# Altium schematic symbol library Conectores GAM.SchLib: 178 symbols
Pins are listed as number, name and electrical type; pins without a type are passive.

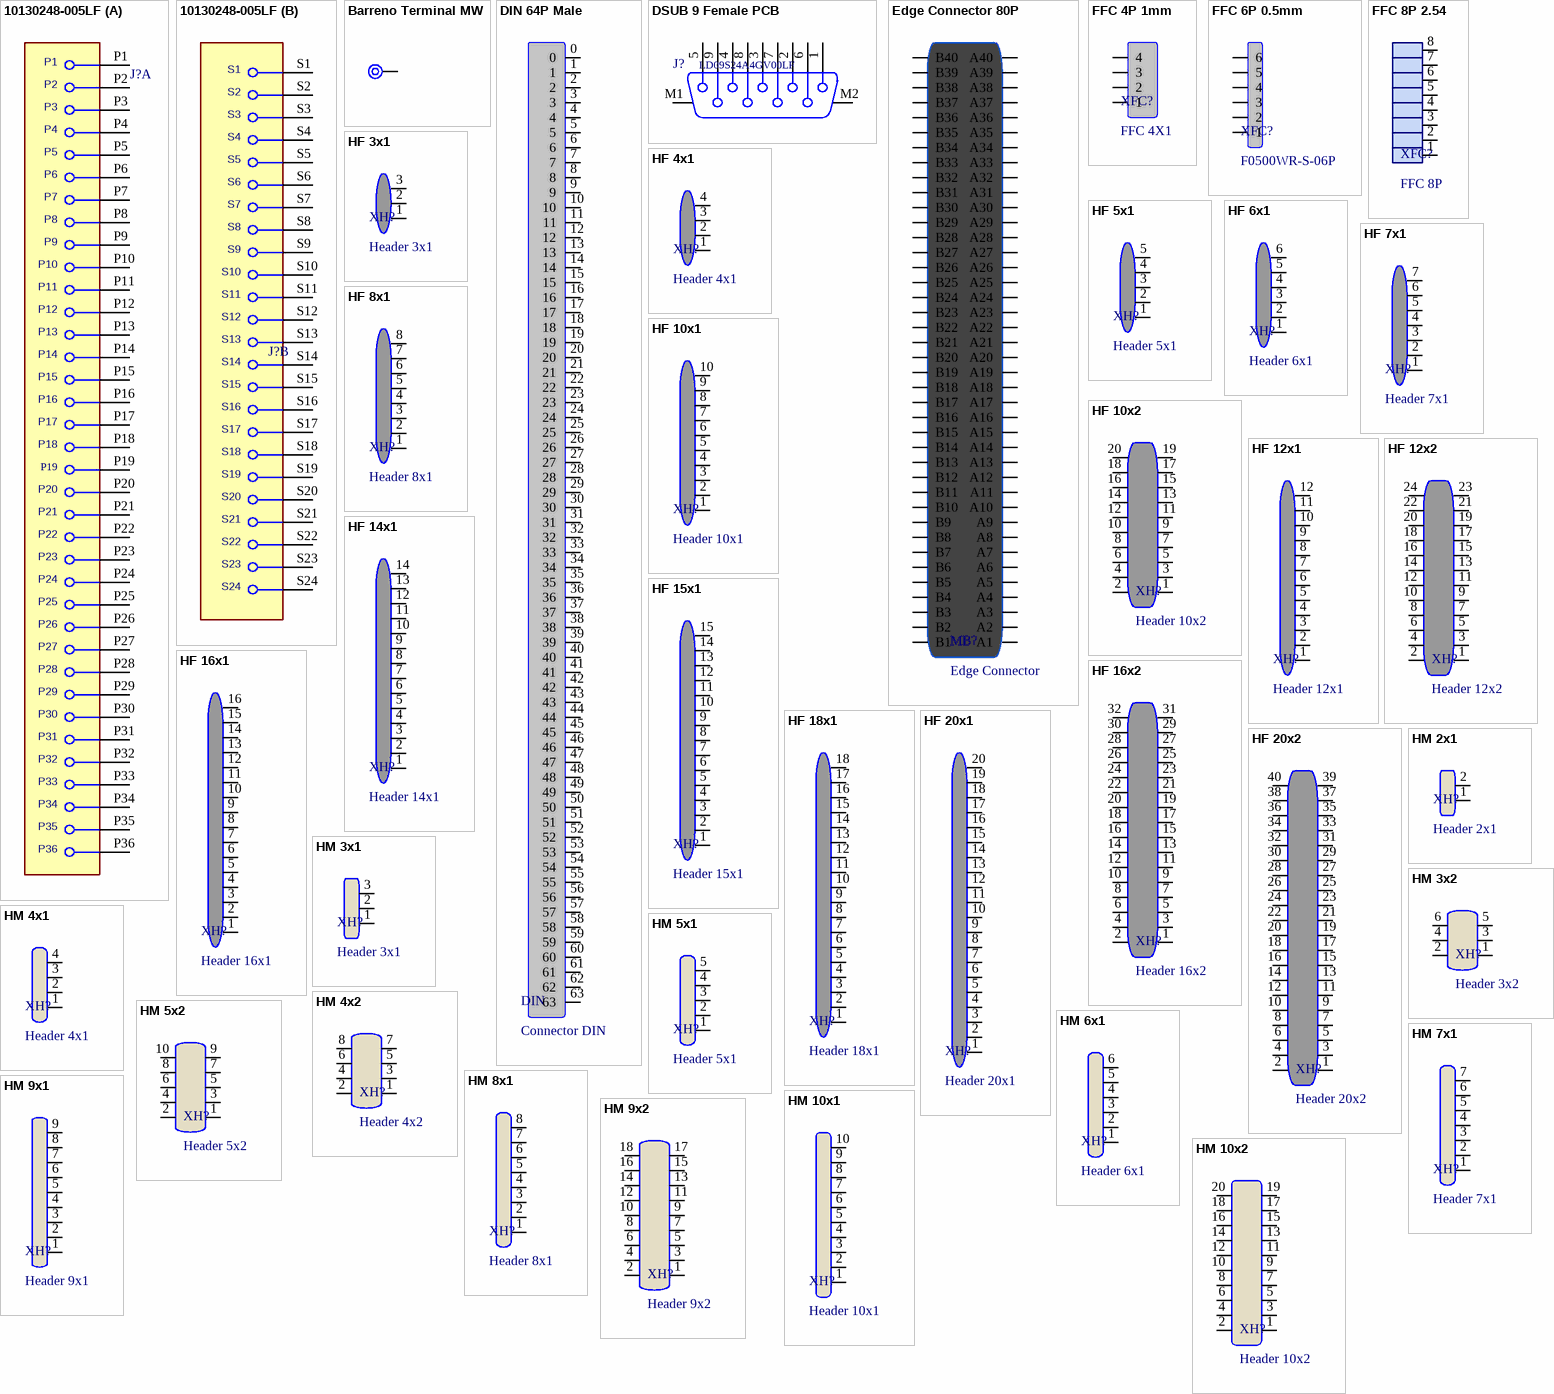
[diagram p0: symbols 10130248-005LF to HM 10x2]

## 10130248-005LF
designator J?  (value not drawn)
footprint Amphenol_0_MFG
part A pins: P1, P2, P3, P4, P5, P6, P7, P8, P9, P10, P11, P12, P13, P14, P15, P16, P17, P18, P19, P20, P21, P22, P23, P24, P25, P26, P27, P28, P29, P30, P31, P32, P33, P34, P35, P36
part B pins: S1, S2, S3, S4, S5, S6, S7, S8, S9, S10, S11, S12, S13, S14, S15, S16, S17, S18, S19, S20, S21, S22, S23, S24

## Barreno Terminal MW
designator H?, comment Hole M3
Barreno de Sujeción M3 Stand Off
footprint M3 Power Terminal (Terminal M3 Para Cable Stand)
pins: 1

## DIN 64P Male
designator DIN, comment Connector DIN
Conector DIn 64P Male
footprint 64P (Connector 64P PMQ)
pins: 0, 1, 2, 3, 4, 5, 6, 7, 8, 9, 10, 11, 12, 13, 14, 15, 16, 17, 18, 19, 20, 21, 22, 23, 24, 25, 26, 27, 28, 29, 30, 31, 32, 33, 34, 35, 36, 37, 38, 39, 40, 41, 42, 43, 44, 45, 46, 47, 48, 49, 50, 51, 52, 53, 54, 55, 56, 57, 58, 59, 60, 61, 62, 63

## DSUB 9 Female PCB
designator J?, comment LD09S24A4GV00LF
LD09S24A4GV00LF Female PCB Connector with Hex Screw, Straight, 9p; Manufacturer Part Number: 61800929321; Manufacturer: Wurth Elektronik; Pin Number: 9; Rated Current: 3A; Contact Resistance: 30mOhm; Working Voltage: 125VAC; Withstanding Voltage: 1000VAC; ComponentLink1Description: Manufacturer; ComponentLink1URL: http://www.we-online.de; ComponentLink2Description: Datasheet; ComponentLink2URL: https://www.we-online.com/catalog/datasheet/61800929321.pdf; Published Date: April 2021; Type: Straight; Operating Temperature: -40 to +85degC; Mounting Technology: THT; Gender: Female; Packaging: Tray
footprint LD09S24A4GV00LF (Female 09p Straight With board clip & Hex screw UNC 4-40)
pins: 1, 2, 3, 4, 5, 6, 7, 8, 9, M1, M2

## Edge Connector 80P
designator MB?, comment Edge Connector
Edge Connector 80P MicroBit Compatible
footprint Edge Connector (80P 1.27mm Edge Connector MicroBit)
pins: A1, A2, A3, A4, A5, A6, A7, A8, A9, A10, A11, A12, A13, A14, A15, A16, A17, A18, A19, A20, A21, A22, A23, A24, A25, A26, A27, A28, A29, A30, A31, A32, A33, A34, A35, A36, A37, A38, A39, A40, B1, B2, B3, B4, B5, B6, B7, B8, B9, B10, B11, B12, B13, B14, B15, B16, B17, B18, B19, B20, B21, B22, B23, B24, B25, B26, B27, B28, B29, B30, B31, B32, B33, B34, B35, B36, B37, B38, B39, B40

## FFC 4P 1mm
designator XFC?, comment FFC 4X1
FFC Conector 4x1 1mm
footprint FFC 4P (Conector FFC 4P 1mm)
pins: 1, 2, 3, 4

## FFC 6P 0.5mm
designator XFC?, comment F0500WR-S-06P
FFC Conector 6x1 0.5mm
footprint FFC 6P (Conector FFC 6P 0.5mm)
pins: 1, 2, 3, 4, 5, 6

## FFC 8P 2.54
designator XFC?, comment FFC 8P
Connector FFC 2.54mm 8P Angulo
footprint FFC  8-2.54 (Conector FFC Angulo 2.54mm 8P)
pins: 1, 2, 3, 4, 5, 6, 7, 8

## HF 3x1
designator XH?, comment Header 3x1
Header Hembra 3x1 2.54mm
footprint HH 3X1 (Header Hembra 3x1 2.54mm)
pins: 1, 2, 3

## HF 4x1
designator XH?, comment Header 4x1
Header Hembra 4x1 2.54mm
footprint HH 4X1 (Header Hembra 4x1 2.54mm)
pins: 1, 2, 3, 4

## HF 5x1
designator XH?, comment Header 5x1
Header Hembra 5x1 2.54mm
footprint HH 5X1 (Header Hembra 5x1 2.54mm)
pins: 1, 2, 3, 4, 5

## HF 6x1
designator XH?, comment Header 6x1
Header Hembra 6x1 2.54mm
footprint HH 6X1 (Header Hembra 6x1 2.54mm)
pins: 1, 2, 3, 4, 5, 6

## HF 7x1
designator XH?, comment Header 7x1
Header Hembra 7x1 2.54mm
footprint HH 7X1 (Header Hembra 7x1 2.54mm)
pins: 1, 2, 3, 4, 5, 6, 7

## HF 8x1
designator XH?, comment Header 8x1
Header Hembra 8x1 2.54mm
footprint HH 8X1 (Header Hembra 8x1 2.54mm)
pins: 1, 2, 3, 4, 5, 6, 7, 8

## HF 10x1
designator XH?, comment Header 10x1
Header Hembra 10x1 2.54mm
footprint HH 10X1 (Header Hembra 10x1 2.54mm)
pins: 1, 2, 3, 4, 5, 6, 7, 8, 9, 10

## HF 10x2
designator XH?, comment Header 10x2
Header Hembra 10x2 2.54mm
footprint HH 10X2 (Header Hembra 10x2 2.54mm)
pins: 1, 2, 3, 4, 5, 6, 7, 8, 9, 10, 11, 12, 13, 14, 15, 16, 17, 18, 19, 20

## HF 12x1
designator XH?, comment Header 12x1
Header Hembra 12x1 2.54mm
footprint HH 12X1 (Header Hembra 12x1 2.54mm)
pins: 1, 2, 3, 4, 5, 6, 7, 8, 9, 10, 11, 12

## HF 12x2
designator XH?, comment Header 12x2
Header Hembra 12x2 2.54mm
footprint HH 12X2 (Header Hembra 12x2 2.54mm)
pins: 1, 2, 3, 4, 5, 6, 7, 8, 9, 10, 11, 12, 13, 14, 15, 16, 17, 18, 19, 20, 21, 22, 23, 24

## HF 14x1
designator XH?, comment Header 14x1
Header Hembra 14x1 2.54mm
footprint HH 14X1 (Header Hembra 14x1 2.54mm)
pins: 1, 2, 3, 4, 5, 6, 7, 8, 9, 10, 11, 12, 13, 14

## HF 15x1
designator XH?, comment Header 15x1
Header Hembra 15x1 2.54mm
footprint HH 15X1 (Header Hembra 15x1 2.54mm)
pins: 1, 2, 3, 4, 5, 6, 7, 8, 9, 10, 11, 12, 13, 14, 15

## HF 16x1
designator XH?, comment Header 16x1
Header Hembra 16x1 2.54mm
footprint HH 16X1 (Header Hembra 16x1 2.54mm)
pins: 1, 2, 3, 4, 5, 6, 7, 8, 9, 10, 11, 12, 13, 14, 15, 16

## HF 16x2
designator XH?, comment Header 16x2
Header Hembra 16x2 2.54mm
footprint HH 16X2 (Header Hembra 16x2 2.54mm)
pins: 1, 2, 3, 4, 5, 6, 7, 8, 9, 10, 11, 12, 13, 14, 15, 16, 17, 18, 19, 20, 21, 22, 23, 24 17, 25 16, 26 15, 27 14, 28 13, 29 12, 30 11, 31, 32 9

## HF 18x1
designator XH?, comment Header 18x1
Header Hembra 18x1 2.54mm
footprint HH 18X1 (Header Hembra 18x1 2.54mm)
pins: 1, 2, 3, 4, 5, 6, 7, 8, 9, 10, 11, 12, 13, 14, 15, 16, 17, 18

## HF 20x1
designator XH?, comment Header 20x1
Header Hembra 20x1 2.54mm
footprint HH 20X1 (Header Hembra 20x1 2.54mm)
pins: 1, 2, 3, 4, 5, 6, 7, 8, 9, 10, 11, 12, 13, 14, 15, 16, 17, 18, 19, 20

## HF 20x2
designator XH?, comment Header 20x2
Header Hembra 20x2 2.54mm
footprint HH 20X2 (Header Hembra 20x2 2.54mm)
pins: 1, 2, 3, 4, 5, 6, 7, 8, 9, 10, 11, 12, 13, 14, 15, 16, 17, 18, 19, 20, 21, 22, 23, 24 17, 25 16, 26 15, 27 14, 28 13, 29 12, 30 11, 31, 32 9, 33 8, 34 7, 35 6, 36 5, 37 4, 38 3, 39 2, 40

## HM 2x1
designator XH?, comment Header 2x1
Header Macho 2x1 2.54mm
footprint HM 2X1 (Header Macho 2x1 2.54mm)
pins: 1, 2

## HM 3x1
designator XH?, comment Header 3x1
Header Macho 3x1 2.54mm
footprint HM 3X1 (Header Macho 3x1 2.54mm)
pins: 1, 2, 3

## HM 3x2
designator XH?, comment Header 3x2
Header Macho 3x2 2.54mm
footprint HM 3X2 (Header Macho 3x2 2.54mm)
pins: 1, 2, 3, 4, 5, 6

## HM 4x1
designator XH?, comment Header 4x1
Header Macho 4x1 2.54mm
footprint HM 4X1 (Header Macho 4x1 2.54mm)
pins: 1, 2, 3, 4

## HM 4x2
designator XH?, comment Header 4x2
Header Macho 4x2 2.54mm
footprint HM 4X2 (Header Macho 4x2 2.54mm)
pins: 1, 2, 3, 4, 5, 6, 7, 8

## HM 5x1
designator XH?, comment Header 5x1
Header Macho 5x1 2.54mm
footprint HM 5X1 (Header Macho 5x1 2.54mm)
pins: 1, 2, 3, 4, 5

## HM 5x2
designator XH?, comment Header 5x2
Header Macho 5x2 2.54mm
footprint HM 5X2 (Header Macho 5x2 2.54mm)
pins: 1, 2, 3, 4, 5, 6, 7, 8, 9, 10

## HM 6x1
designator XH?, comment Header 6x1
Header Macho 6x1 2.54mm
footprint HM 6X1 (Header Macho 6x1 2.54mm)
pins: 1, 2, 3, 4, 5, 6

## HM 7x1
designator XH?, comment Header 7x1
Header Macho 7x1 2.54mm
footprint HM 7X1 (Header Macho 7x1 2.54mm)
pins: 1, 2, 3, 4, 5, 6, 7

## HM 8x1
designator XH?, comment Header 8x1
Header Macho 8x1 2.54mm
footprint HM 8X1 (Header Macho 8x1 2.54mm)
pins: 1, 2, 3, 4, 5, 6, 7, 8

## HM 9x1
designator XH?, comment Header 9x1
Header Macho 9x1 2.54mm
footprint HM 9X1 (Header Macho 9x1 2.54mm)
pins: 1, 2, 3, 4, 5, 6, 7, 8, 9

## HM 9x2
designator XH?, comment Header 9x2
Header Macho 9x2 2.54mm
footprint HM 9X2 (Header Macho 9x2 2.54mm)
pins: 1, 2, 3, 4, 5, 6, 7, 8, 9, 10, 11, 12, 13, 14, 15, 16, 17, 18

## HM 10x1
designator XH?, comment Header 10x1
Header Macho 10x1 2.54mm
footprint HM 10X1 (HM 10X1 2.54mm)
pins: 1, 2, 3, 4, 5, 6, 7, 8, 9, 10

## HM 10x2
designator XH?, comment Header 10x2
Header Macho 10x2 2.54mm
footprint HM 10X2 (HM 10X2 2.54mm)
pins: 1, 2, 3, 4, 5, 6, 7, 8, 9, 10, 11, 12, 13, 14, 15, 16, 17, 18, 19, 20

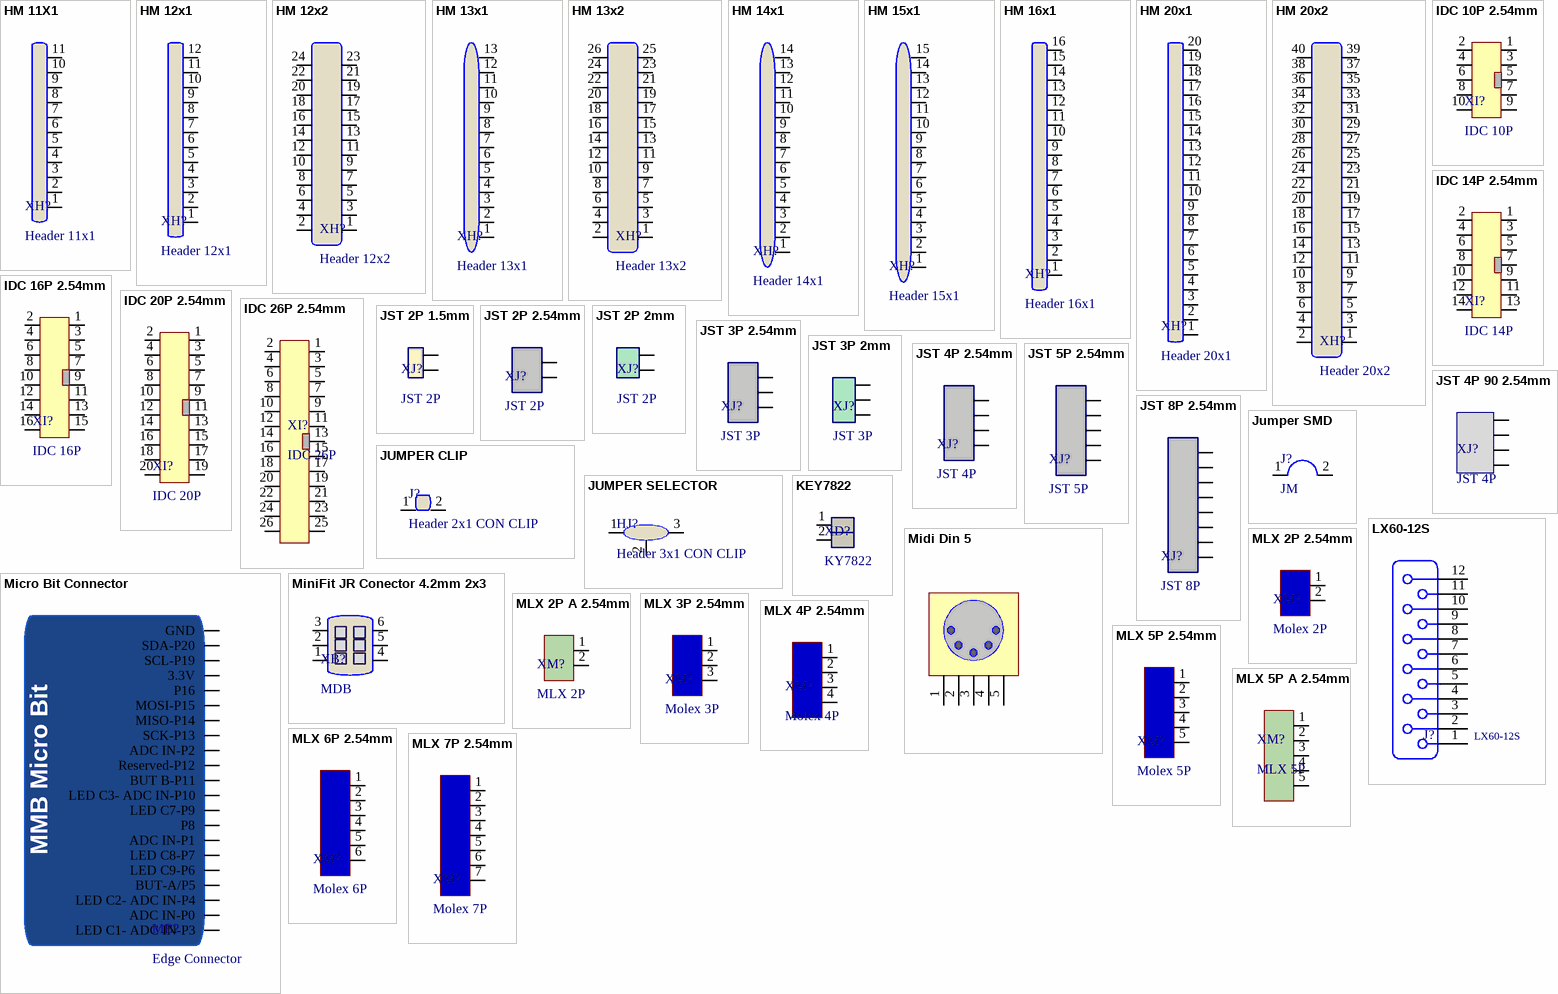
[diagram p1: symbols HM 11X1 to MLX 7P 2.54mm]

## HM 11X1
designator XH?, comment Header 11x1
Header Macho 11x1 2.54mm
footprint HM 11X1 (Header Macho 11x1 2.54mm)
pins: 1, 2, 3, 4, 5, 6, 7, 8, 9, 10, 11

## HM 12x1
designator XH?, comment Header 12x1
Header Macho 12x1 2.54mm
footprint HM 12X1 (Header Macho 12x1 2.54mm)
pins: 1, 2, 3, 4, 5, 6, 7, 8, 9, 10, 11, 12

## HM 12x2
designator XH?, comment Header 12x2
Header Macho 12x2 2.54mm
footprint HM 12X2 (HM 12X2 2.54mm)
pins: 1, 2, 3, 4, 5, 6, 7, 8, 9, 10, 11, 12, 13, 14, 15, 16, 17, 18, 19, 20, 21, 22, 23, 24

## HM 13x1
designator XH?, comment Header 13x1
Header Macho 13x1 2.54mm
footprint HM 13X1 (Header Macho 13x1 2.54mm)
pins: 1, 2, 3, 4, 5, 6, 7, 8, 9, 10, 11, 12, 13

## HM 13x2
designator XH?, comment Header 13x2
Header Macho 13x2 2.54mm
footprint HM 13X2 (HM 13X2 2.54mm)
pins: 1, 2, 3, 4, 5, 6, 7, 8, 9, 10, 11, 12, 13, 14, 15, 16, 17, 18, 19, 20, 21, 22, 23, 24, 25, 26

## HM 14x1
designator XH?, comment Header 14x1
Header Macho 14x1 2.54mm
footprint HM 14X1 (Header Macho 14x1 2.54mm)
pins: 1, 2, 3, 4, 5, 6, 7, 8, 9, 10, 11, 12, 13, 14

## HM 15x1
designator XH?, comment Header 15x1
Header Macho 15x1 2.54mm
footprint HM 15X1 (Header Macho 15x1 2.54mm)
pins: 1, 2, 3, 4, 5, 6, 7, 8, 9, 10, 11, 12, 13, 14, 15

## HM 16x1
designator XH?, comment Header 16x1
Header Macho 16x1 2.54mm
footprint HM 16X1 (Header Macho 16x1 2.54mm)
pins: 1, 2, 3, 4, 5, 6, 7, 8, 9, 10, 11, 12, 13, 14, 15, 16

## HM 20x1
designator XH?, comment Header 20x1
Header Macho 20x1 2.54mm
footprint HM 20X1 (Header Macho 20x1 2.54mm)
pins: 1, 2, 3, 4, 5, 6, 7, 8, 9, 10, 11, 12, 13, 14, 15, 16, 17, 18, 19, 20

## HM 20x2
designator XH?, comment Header 20x2
Header Macho 20x2 2.54mm
footprint HM 20X2 (HM 20X2 2.54mm)
pins: 1, 2, 3, 4, 5, 6, 7, 8, 9, 10, 11, 12, 13, 14, 15, 16, 17, 18, 19, 20, 21, 22, 23, 24, 25, 26, 27, 28, 29, 30, 31, 32, 33, 34, 35, 36, 37, 38, 39, 40

## IDC 10P 2.54mm
designator XI?, comment IDC 10P
IDC 10P 2.54mm
footprint IDC 10P 2.54mm
pins: 1, 2, 3, 4, 5, 6, 7, 8, 9, 10

## IDC 14P 2.54mm
designator XI?, comment IDC 14P
IDC 14P 2.54mm
footprint IDC 14P 2.54mm
pins: 1, 2, 3, 4, 5, 6, 7, 8, 9, 10, 11, 12, 13, 14

## IDC 16P 2.54mm
designator XI?, comment IDC 16P
IDC 16P 2.54mm
footprint IDC 16P 2.54mm (IDC Conector 16 Posiciones)
pins: 1, 2, 3, 4, 5, 6, 7, 8, 9, 10, 11, 12, 13, 14, 15, 16

## IDC 20P 2.54mm
designator XI?, comment IDC 20P
IDC 20P 2.54mm
footprint IDC 20P 2.54mm (IDC Conector 20 Posiciones)
pins: 1, 2, 3, 4, 5, 6, 7, 8, 9, 10, 11, 12, 13, 14, 15, 16, 17, 18, 19, 20

## IDC 26P 2.54mm
designator XI?, comment IDC 26P
IDC 26P 2.54mm
footprint IDC 26P 2.54mm (IDC Conector 26 Posiciones)
pins: 1, 2, 3, 4, 5, 6, 7, 8, 9, 10, 11, 12, 13, 14, 15, 16, 17, 18, 19, 20, 21, 22, 23, 24, 25, 26

## JST 2P 1.5mm
designator XJ?, comment JST 2P
JST 2P 1.5mm
footprint JST 2P 1.5mm (JST Conector 1.5mm)
pins: 1, 2

## JST 2P 2.54mm
designator XJ?, comment JST 2P
JST 2P 2.54mm
footprint JST 2P 2.54mm
pins: 1, 2

## JST 2P 2mm
designator XJ?, comment JST 2P
JST 2P 2mm
footprint JST 2P 2mm (Conector JST 2mm)
pins: 1, 2

## JST 3P 2.54mm
designator XJ?, comment JST 3P
JST 3P 2.54mm
footprint JST 3P 2.54mm
pins: 1, 2, 3

## JST 3P 2mm
designator XJ?, comment JST 3P
JST 3P 2mm
footprint JST 3P 2mm (Conector JST 2mm)
pins: 1, 2, 3

## JST 4P 2.54mm
designator XJ?, comment JST 4P
JST 4P 2.54mm
footprint JST 4P 2.54mm
pins: 1, 2, 3, 4

## JST 4P 90 2.54mm
designator XJ?, comment JST 4P
JST 4P 2.54mm 90 Grados
footprint JST 4P 90° 2.54mm (JST 90° 4 PIN CONNECTOR)
pins: 1, 2, 3, 4

## JST 5P 2.54mm
designator XJ?, comment JST 5P
JST 5P 2.54mm
footprint JST 5P 2.54mm
pins: 1, 2, 3, 4, 5

## JST 8P 2.54mm
designator XJ?, comment JST 8P
JST 8P 2.54mm
footprint JST 8P 2.54mm
pins: 1, 2, 3, 4, 5, 6, 7, 8

## JUMPER CLIP
designator J?, comment Header 2x1 CON CLIP
Header Macho 2x1 2.54mm
footprint Jump (Clip Jumper 2.54mm)
pins: 1, 2

## JUMPER SELECTOR
designator HJ?, comment Header 3x1 CON CLIP
Header Macho 3x1 2.54mm con clip para seleccion
footprint Jump Selector (Clip Jumper 2.54mm Selector)
pins: 1, 2, 3

## Jumper SMD
designator J?, comment JM
Jumper SMD S1621-46R
footprint S1621-46R (Jumper SMT)
pins: 1, 2

## KEY7822
designator XD?, comment KY7822
Terminal Keystone 7822 Crimp
footprint KEYSTONE 7822 (Terminal 7822)
pins: 1, 2

## LX60-12S
designator J?
Conectores I/O RCP 12 POS 0.5mm Sol RA SMD 12Termina; Manufacturer Part Number: 61800929321; Manufacturer: Wurth Elektronik; Pin Number: 9; Rated Current: 3A; Gender: Female; Contact Resistance: 30mOhm; Working Voltage: 125VAC; Withstanding Voltage: 1000VAC; ComponentLink1Description: Manufacturer; ComponentLink1URL: http://www.we-online.de; ComponentLink2Description: Datasheet; ComponentLink2URL: https://www.we-online.com/catalog/datasheet/61800929321.pdf; Published Date: April 2021; Type: Straight; Operating Temperature: -40 to +85degC; Mounting Technology: THT; Packaging: Tray
footprint LX60-12S (Conectores I/O RCP 12 POS 0.5mm Sol RA SMD 12Termina)
pins: 1, 2, 3, 4, 5, 6, 7, 8, 9, 10, 11, 12

## Micro Bit Connector
designator MB?, comment Edge Connector
Edge Connector 80P MicroBit Compatible Recto
footprint Edge Conn Microbit r
pins: 1 LED C1- ADC IN-P3, 2 ADC IN-P0, 3 LED C2- ADC IN-P4, 4 BUT-A/P5, 5 LED C9-P6, 6 LED C8-P7, 7 ADC IN-P1, 8 P8, 9 LED C7-P9, 10 LED C3- ADC IN-P10, 11 BUT B-P11, 12 Reserved-P12, 13 ADC IN-P2, 14 SCK-P13, 15 MISO-P14, 16 MOSI-P15, 17 P16, 18 3.3V, 19 SCL-P19, 20 SDA-P20, 21 GND
text: MMB Micro Bit

## Midi Din 5
designator MC?
Conector PCB Midi DIN 5 Pin
footprint Midi DIN 5 (Midi Connector DIN 5 Pin)
pins: 1, 2, 3, 4, 5

## MiniFit JR Conector 4.2mm 2x3
designator XB?, comment MDB
Wire to Board Connector 4.2mm
footprint Mini Fit 2x3  4.2mm (Wire to Board Connector 2x3 4.2x4.2mm)
pins: 1, 2, 3, 4, 5, 6

## MLX 2P 2.54mm
designator XM?, comment Molex 2P
Molex 2P 2.54mm
footprint MLX 2P 2.54MM
pins: 1, 2

## MLX 2P A 2.54mm
designator XM?, comment MLX 2P
Molex 2P A 2.54mm
footprint MLX 2PA 2.54mm (Molex Connector 2.54mm 2P Ang)
pins: 1, 2

## MLX 3P 2.54mm
designator XM?, comment Molex 3P
Molex 3P 2.54mm
footprint MLX 3P 2.54MM
pins: 1, 2, 3

## MLX 4P 2.54mm
designator XM?, comment Molex 4P
Molex 4P 2.54mm
footprint MLX 4P 2.54mm
pins: 1, 2, 3, 4

## MLX 5P 2.54mm
designator XM?, comment Molex 5P
Molex 5P 2.54mm
footprint MLX 5P 2.54MM
pins: 1, 2, 3, 4, 5

## MLX 5P A 2.54mm
designator XM?, comment MLX 5P
Molex 5P A 2.54mm
footprint MLX 5PA 2.54MM (Molex Connector 90 Deg conection)
pins: 1, 2, 3, 4, 5

## MLX 6P 2.54mm
designator XM?, comment Molex 6P
Molex 6P 2.54mm
footprint MLX 6P 2.54mm
pins: 1, 2, 3, 4, 5, 6

## MLX 7P 2.54mm
designator XM?, comment Molex 7P
Molex 7P 2.54mm
footprint MLX 7P 2.54MM
pins: 1, 2, 3, 4, 5, 6, 7

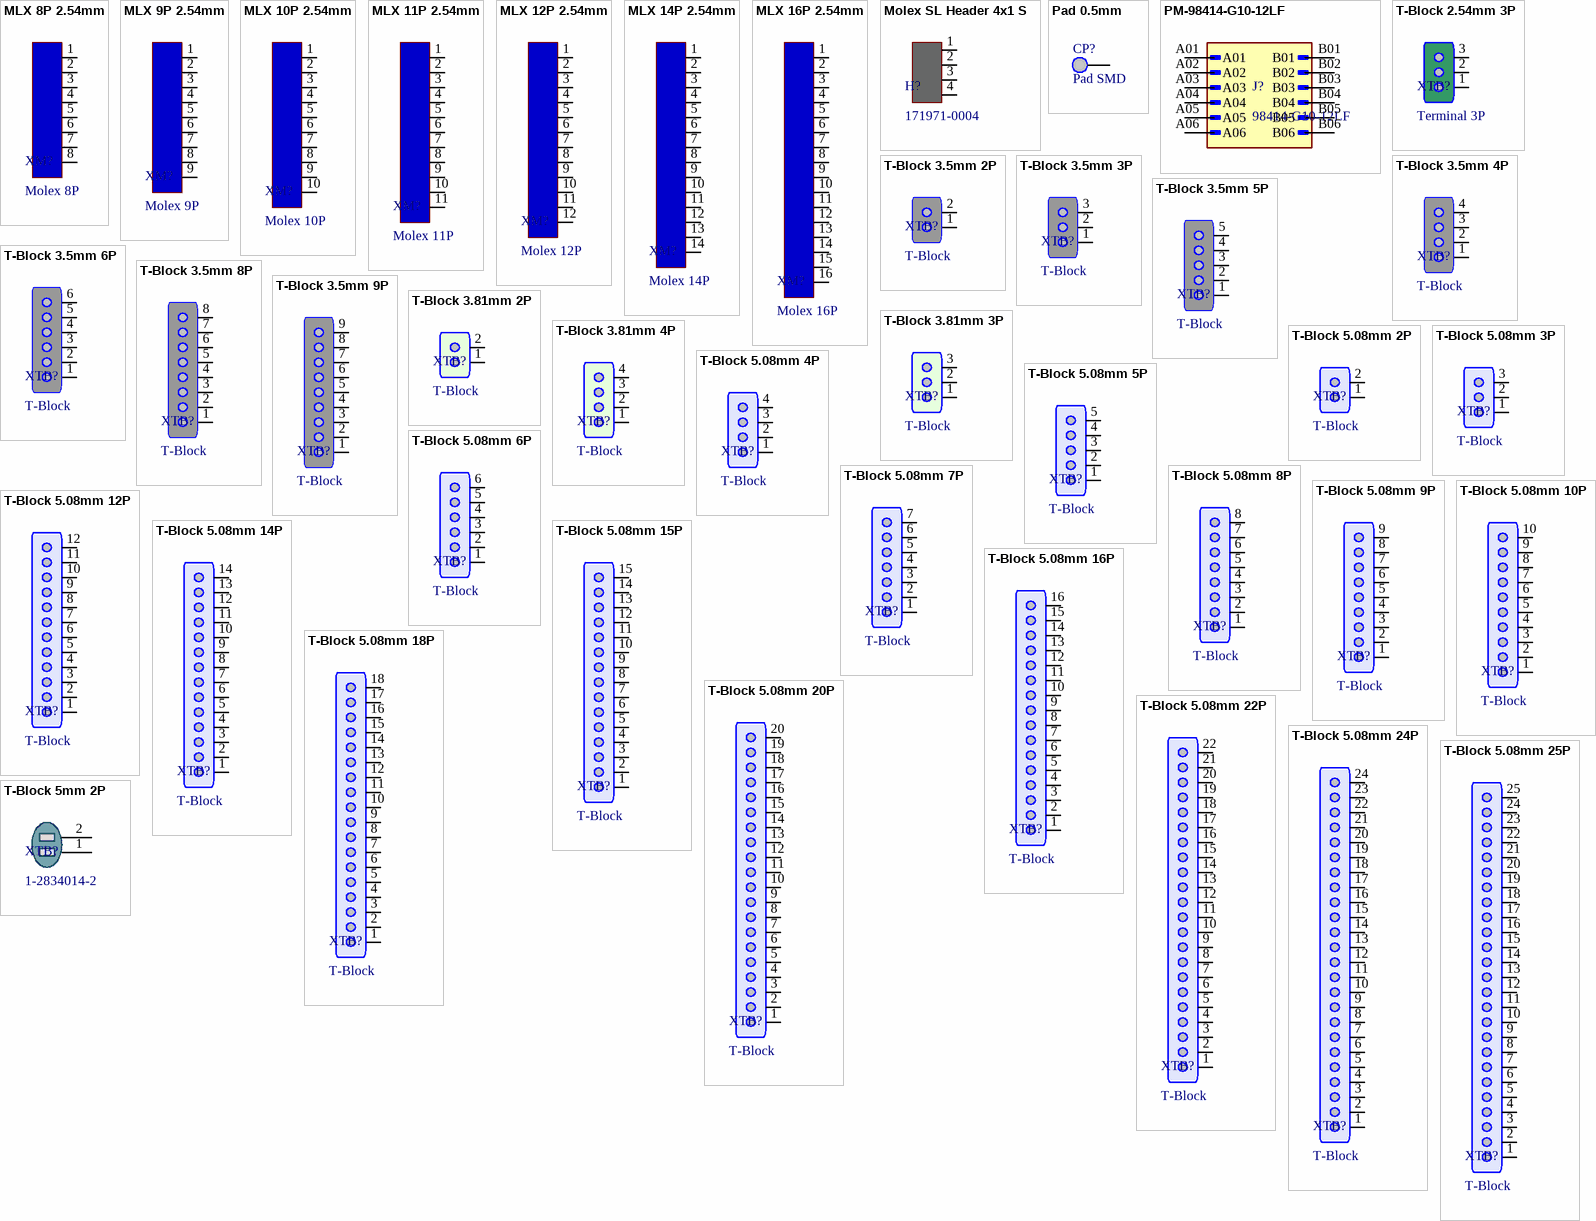
[diagram p2: symbols MLX 8P 2.54mm to T-Block 5mm 2P]

## MLX 8P 2.54mm
designator XM?, comment Molex 8P
Molex 8P 2.54mm
footprint Molex 8P 2.54mm
pins: 1, 2, 3, 4, 5, 6, 7, 8

## MLX 9P 2.54mm
designator XM?, comment Molex 9P
Molex 9P 2.54mm
footprint Molex 9P 2.54mm (Conector Tipo Molex 9P)
pins: 1, 2, 3, 4, 5, 6, 7, 8, 9

## MLX 10P 2.54mm
designator XM?, comment Molex 10P
Molex 10P 2.54mm
footprint Molex 10P 2.54mm (Conector Tipo Molex 10P)
pins: 1, 2, 3, 4, 5, 6, 7, 8, 9, 10

## MLX 11P 2.54mm
designator XM?, comment Molex 11P
Molex 11P 2.54mm
footprint Molex 11P 2.54mm (Conector Tipo Molex 11P)
pins: 1, 2, 3, 4, 5, 6, 7, 8, 9, 10, 11

## MLX 12P 2.54mm
designator XM?, comment Molex 12P
Molex 12P 2.54mm
footprint Molex 12P 2.54mm (Conector Tipo Molex 12P)
pins: 1, 2, 3, 4, 5, 6, 7, 8, 9, 10, 11, 12

## MLX 14P 2.54mm
designator XM?, comment Molex 14P
Molex 14P 2.54mm
footprint Molex 14P 2.54mm (Conector Tipo Molex 14P)
pins: 1, 2, 3, 4, 5, 6, 7, 8, 9, 10, 11, 12, 13, 14

## MLX 16P 2.54mm
designator XM?, comment Molex 16P
Molex 16P 2.54mm
footprint Molex 16P 2.54mm (Conector Tipo Molex 16P)
pins: 1, 2, 3, 4, 5, 6, 7, 8, 9, 10, 11, 12, 13, 14, 15, 16

## Molex SL Header 4x1 S
designator H?, comment 171971-0004
Molex 4P 2.54mm 171971-0004 Security Connector
footprint Molex 171971-0004 (Header Macho 171971-0004 Polaridad)
pins: 1, 2, 3, 4

## Pad 0.5mm
designator CP?, comment Pad SMD
footprint Pad 0.5mm (Pad 0.5mm x 1mm)
pins: 1 P

## PM-98414-G10-12LF
designator J?, comment 98414-G10-12LF
CONN HEADER VERT 12POS 2MM; Package: None; Price: None; Value: *; MP: 98414-G10-12LF; Availability: Unavailable
footprint AMPHENOL_98414-G10-12LF
pins: A01, A02, A03, A04, A05, A06, B01, B02, B03, B04, B05, B06

## T-Block 2.54mm 3P
designator XTB?, comment Terminal 3P
Terminal de Bloque 3P 2.54mm
footprint T-Block 3P 2.54mm (Terminal de Bloque 3P 2.54mm)
pins: 1, 2, 3

## T-Block 3.5mm 2P
designator XTB?, comment T-Block
Terminal de Bloque 2P 3.5mm 691412120002B
footprint T-BLOCK 2P 3.5mm (Terminal Block 2P 3.5mm)
pins: 1, 2

## T-Block 3.5mm 3P
designator XTB?, comment T-Block
Terminal de Bloque 3P 3.5mm 691412120003B
footprint T-BLOCK 3P 3.5mm (Terminal Block 3P 3.5mm)
pins: 1, 2, 3

## T-Block 3.5mm 4P
designator XTB?, comment T-Block
Terminal de Bloque 4P 3.5mm 691412120004B
footprint T-BLOCK 4P 3.5mm (Terminal Block 4P 3.5mm)
pins: 1, 2, 3, 4

## T-Block 3.5mm 5P
designator XTB?, comment T-Block
Terminal de Bloque 5P 3.5mm 691412120005B
footprint T-BLOCK 5P 3.5mm (Terminal Block 5P 3.5mm)
pins: 1, 2, 3, 4, 5

## T-Block 3.5mm 6P
designator XTB?, comment T-Block
Terminal de Bloque 6P 3.5mm 691412120006B
footprint T-BLOCK 6P 3.5mm (Terminal Block 6P 3.5mm)
pins: 1, 2, 3, 4, 5, 6

## T-Block 3.5mm 8P
designator XTB?, comment T-Block
Terminal de Bloque 8P 3.5mm 691412120008B
footprint T-BLOCK 8P 3.5mm (Terminal Block 8P 3.5mm)
pins: 1, 2, 3, 4, 5, 6, 7, 8

## T-Block 3.5mm 9P
designator XTB?, comment T-Block
Terminal de Bloque 9P 3.5mm 691412120009B
footprint T-BLOCK 9P 3.5mm (Terminal Block 9P 3.5mm)
pins: 1, 2, 3, 4, 5, 6, 7, 8, 9

## T-Block 3.81mm 2P
designator XTB?, comment T-Block
Terminal de Bloque 2P 3.81mm
footprint T-BLOCK 2P 3.81mm (Terminal Block 2P 3.81mm)
pins: 1, 2

## T-Block 3.81mm 3P
designator XTB?, comment T-Block
Terminal de Bloque 3P 3.81mm
footprint T-BLOCK 3P 3.81mm (Terminal de Bloque 3P 3.81mm)
pins: 1, 2, 3

## T-Block 3.81mm 4P
designator XTB?, comment T-Block
Terminal de Bloque 4P 3.81mm
footprint T-BLOCK 4P 3.81mm (Terminal de Bloque 4P 3.81mm)
pins: 1, 2, 3, 4

## T-Block 5.08mm 2P
designator XTB?, comment T-Block
Terminal de Bloque 2P 5.08mm
footprint T-BLOCK 2P 5.08MM (Terminal de Bloque 2P 5.08mm)
pins: 1, 2

## T-Block 5.08mm 3P
designator XTB?, comment T-Block
Terminal de Bloque 3P 5.08mm
footprint T-BLOCK 3P 5.08mm (Terminal Block 3P 5.08mm)
pins: 1, 2, 3

## T-Block 5.08mm 4P
designator XTB?, comment T-Block
Terminal de Bloque 4P 5.08mm
footprint T-BLOCK 4P 5.08mm (Terminal Block 4P 5.08mm)
pins: 1, 2, 3, 4

## T-Block 5.08mm 5P
designator XTB?, comment T-Block
Terminal de Bloque 5P 5.08mm
footprint T-BLOCK 5P 5.08mm (Terminal Block 5P 5.08mm)
pins: 1, 2, 3, 4, 5

## T-Block 5.08mm 6P
designator XTB?, comment T-Block
Terminal de Bloque 6P 5.08mm
footprint T-BLOCK 6P 5.08mm (Terminal Block 6P 5.08mm)
pins: 1, 2, 3, 4, 5, 6

## T-Block 5.08mm 7P
designator XTB?, comment T-Block
Terminal de Bloque 7P 5.08mm
footprint T-BLOCK 7P 5.08mm (Terminal Block 7P 5.08mm)
pins: 1, 2, 3, 4, 5, 6, 7

## T-Block 5.08mm 8P
designator XTB?, comment T-Block
Terminal de Bloque 8P 5.08mm
footprint T-BLOCK 8P 5.08mm (Terminal de Bloque 8P 5.08mm)
pins: 1, 2, 3, 4, 5 2, 6 3, 7 2, 8 3

## T-Block 5.08mm 9P
designator XTB?, comment T-Block
Terminal de Bloque 9P 5.08mm
footprint T-BLOCK 9P 5.08mm (Terminal de Bloque 9P 5.08mm)
pins: 1, 2, 3, 4, 5 2, 6 3, 7 2, 8 3, 9

## T-Block 5.08mm 10P
designator XTB?, comment T-Block
Terminal de Bloque 10P 5.08mm
footprint T-BLOCK 10P 5.08mm (Terminal de Bloque 10P 5.08mm)
pins: 1, 2, 3, 4, 5, 6, 7, 8, 9, 10

## T-Block 5.08mm 12P
designator XTB?, comment T-Block
Terminal de Bloque 12P 5.08mm
footprint T-BLOCK 12P 5.08mm (Terminal de Bloque 12P 5.08mm)
pins: 1, 2, 3, 4, 5, 6, 7, 8, 9, 10, 11, 12

## T-Block 5.08mm 14P
designator XTB?, comment T-Block
Terminal de Bloque 14P 5.08mm
footprint T-BLOCK 14P 5.08mm (Terminal de Bloque 14P 5.08mm)
pins: 1, 2, 3, 4, 5, 6, 7, 8, 9, 10, 11, 12, 13, 14

## T-Block 5.08mm 15P
designator XTB?, comment T-Block
Terminal de Bloque 15P 5.08mm
footprint T-BLOCK 15P 5.08mm (Terminal de Bloque 15P 5.08mm)
pins: 1, 2, 3, 4, 5, 6, 7, 8, 9, 10, 11, 12, 13, 14, 15

## T-Block 5.08mm 16P
designator XTB?, comment T-Block
Terminal de Bloque 16P 5.08mm
footprint T-BLOCK 16P 5.08mm (Terminal de Bloque 16P 5.08mm)
pins: 1, 2, 3, 4, 5, 6, 7, 8, 9, 10, 11, 12, 13, 14, 15, 16

## T-Block 5.08mm 18P
designator XTB?, comment T-Block
Terminal de Bloque 18P 5.08mm
footprint T-BLOCK 18P 5.08mm (Terminal de Bloque 18P 5.08mm)
pins: 1, 2, 3, 4, 5, 6, 7, 8, 9, 10, 11, 12, 13, 14, 15, 16, 17, 18

## T-Block 5.08mm 20P
designator XTB?, comment T-Block
Terminal de Bloque 20P 5.08mm
footprint T-BLOCK 20P 5.08mm (Terminal de Bloque 20P 5.08mm)
pins: 1, 2, 3, 4, 5, 6, 7, 8, 9, 10, 11, 12, 13, 14, 15, 16, 17, 18, 19, 20

## T-Block 5.08mm 22P
designator XTB?, comment T-Block
Terminal de Bloque 22P 5.08mm
footprint T-BLOCK 22P 5.08mm (Terminal de Bloque 22P 5.08mm)
pins: 1, 2, 3, 4, 5, 6, 7, 8, 9, 10, 11, 12, 13, 14, 15, 16, 17, 18, 19, 20, 21, 22

## T-Block 5.08mm 24P
designator XTB?, comment T-Block
Terminal de Bloque 24P 5.08mm
footprint T-BLOCK 24P 5.08mm (Terminal de Bloque 24P 5.08mm)
pins: 1, 2, 3, 4, 5, 6, 7, 8, 9, 10, 11, 12, 13, 14, 15, 16, 17, 18, 19, 20, 21, 22, 23, 24

## T-Block 5.08mm 25P
designator XTB?, comment T-Block
Terminal de Bloque 25P 5.08mm
footprint T-BLOCK 25P 5.08mm (Terminal de Bloque 25P 5.08mm)
pins: 1, 2, 3, 4, 5, 6, 7, 8, 9, 10, 11, 12, 13, 14, 15, 16, 17, 18, 19, 20, 21, 22, 23, 24, 25

## T-Block 5mm 2P
designator XTB?, comment 1-2834014-2
Terminal de Bloque 2P 5.0mm TE 1-2834014-2
footprint T-BLOCK 2P 5.00 mm (Terminal de Bloque 2P 5mm TE 1-2834014-2)
pins: 1, 2

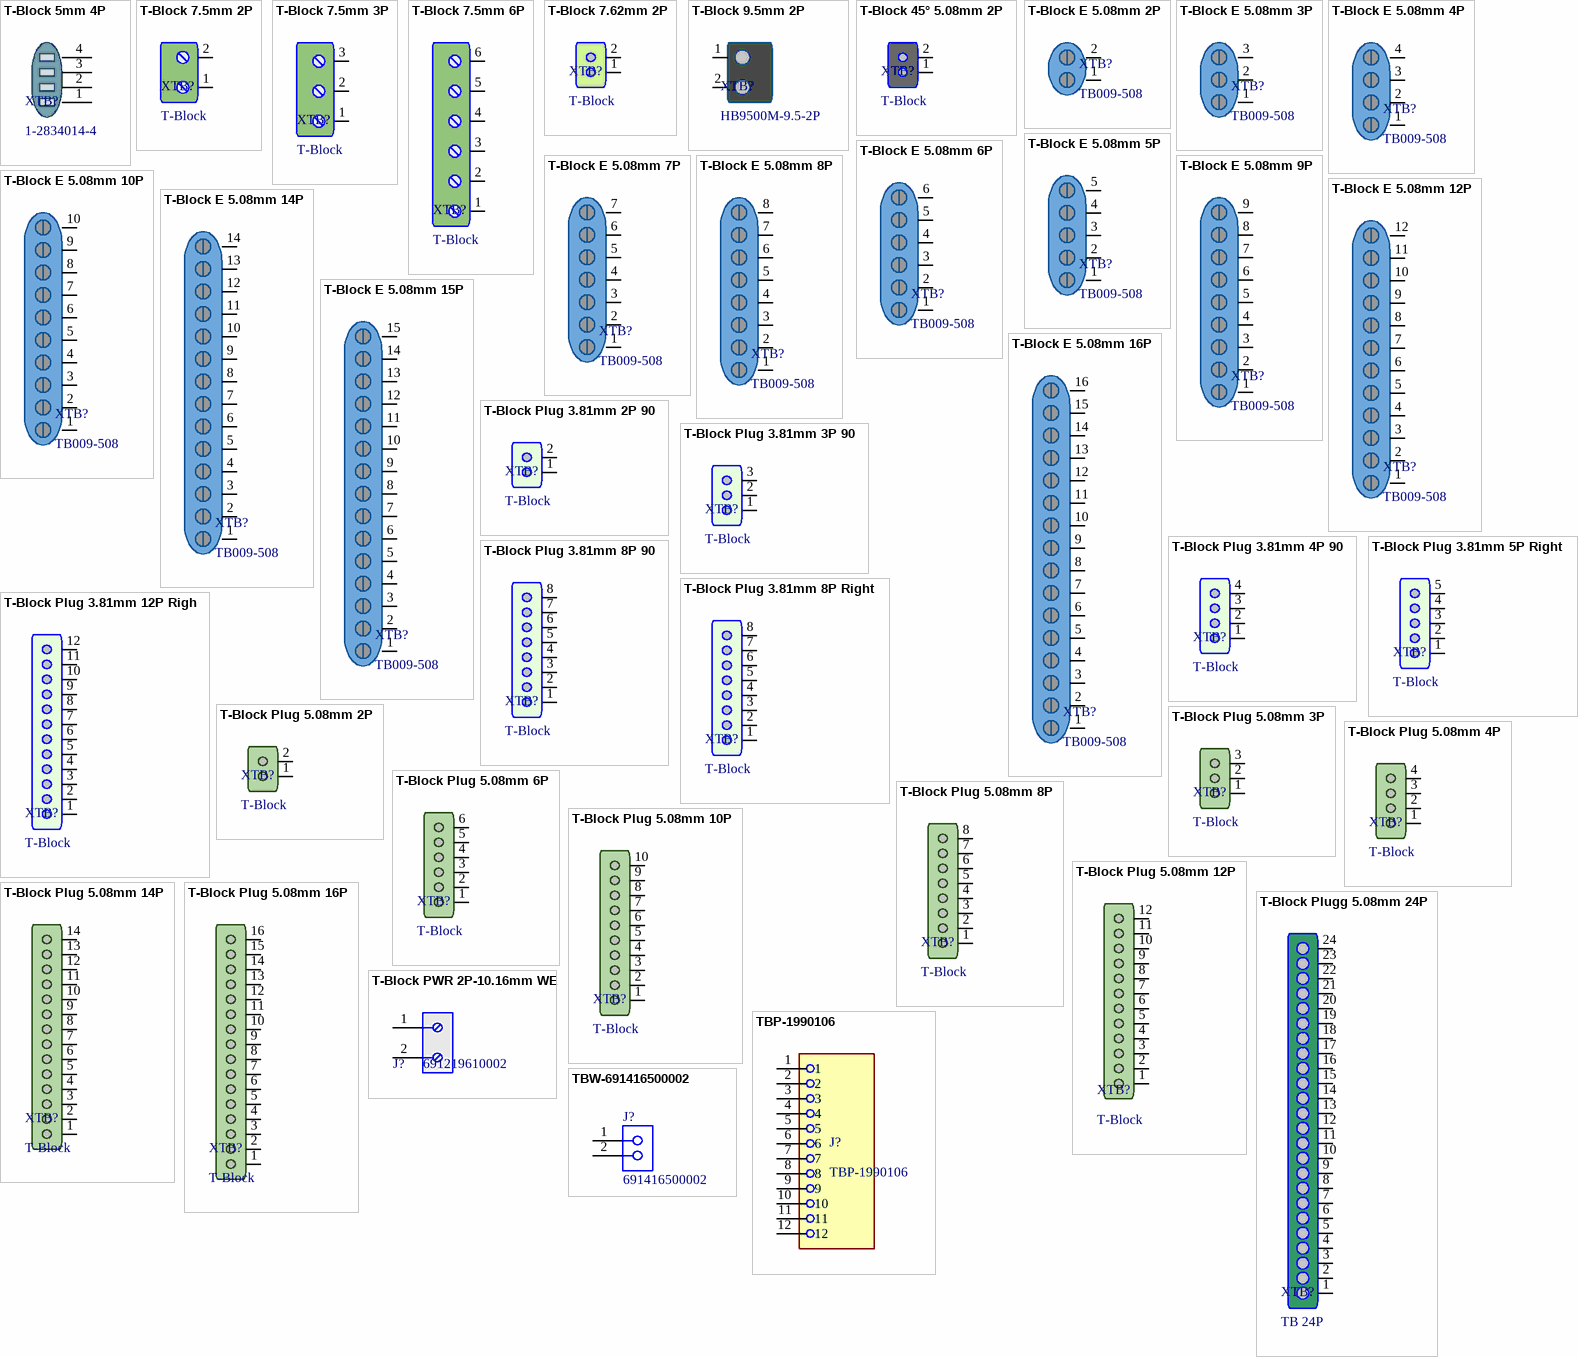
[diagram p3: symbols T-Block 5mm 4P to TBW-691416500002]

## T-Block 5mm 4P
designator XTB?, comment 1-2834014-4
Terminal de Bloque 4P 5.0mm TE 1-2834014-4
footprint T-BLOCK 4P 5.00 mm (Terminal de Bloque 4P 5mm TE 1-2834014-4)
pins: 1, 2, 3, 4

## T-Block 7.5mm 2P
designator XTB?, comment T-Block
Terminal de Bloque 2P 7.5mm #691137910002/WJ128V-7.5-2P
footprint T-BLOCK 2P 7.5MM (Terminal de Bloque 2P 7.5 mm)
pins: 1, 2

## T-Block 7.5mm 3P
designator XTB?, comment T-Block
Terminal de Bloque 3P 7.5mm
footprint T-BLOCK 3P 7.5MM (Terminal de Bloque 3P 7.5 mm)
pins: 1, 2, 3

## T-Block 7.5mm 6P
designator XTB?, comment T-Block
Terminal de Bloque 6P 7.5mm
footprint T-BLOCK 6P 7.5MM (Terminal de Bloque 6P 7.5 mm)
pins: 1, 2, 3, 4, 5, 6

## T-Block 7.62mm 2P
designator XTB?, comment T-Block
Terminal de Bloque 2P 37.62mm
footprint T-BLOCK 2P 7.62mm (Terminal de Bloque 7.62mm)
pins: 1, 2

## T-Block 9.5mm 2P
designator XTB?, comment HB9500M-9.5-2P
Terminal de Bloque 2P 9.5mm
footprint T-BLOCK 2P 9.5mm (Terminal de Bloque 9.5mm)
pins: 1, 2

## T-Block 45° 5.08mm 2P
designator XTB?, comment T-Block
Terminal de Bloque 2P 45° 5.08mm
footprint T-BLOCK 2P 45° 5.08MM (Terminal de Bloque 2P 45° 5.08mm)
pins: 1, 2

## T-Block E 5.08mm 2P
designator XTB?, comment TB009-508
Terminal de Bloque 2P 5.08mm High Current Euro Style TB009-508 CUI Devices
footprint T-BLOCK EURO 2P 5.08MM (Terminal de Bloque 2P 5.08mm EURO STYLE)
pins: 1, 2

## T-Block E 5.08mm 3P
designator XTB?, comment TB009-508
Terminal de Bloque 3P 5.08mm High Current Euro Style TB009-508 CUI Devices
footprint T-BLOCK EURO 3P 5.08MM (Terminal de Bloque 3P 5.08mm EURO STYLE)
pins: 1, 2, 3

## T-Block E 5.08mm 4P
designator XTB?, comment TB009-508
Terminal de Bloque 4P 5.08mm High Current Euro Style TB009-508 CUI Devices
footprint T-BLOCK EURO 4P 5.08MM (Terminal de Bloque 4P 5.08mm EURO STYLE)
pins: 1, 2, 3, 4

## T-Block E 5.08mm 5P
designator XTB?, comment TB009-508
Terminal de Bloque 5P 5.08mm High Current Euro Style TB009-508 CUI Devices
footprint T-BLOCK EURO 5P 5.08MM (Terminal de Bloque 5P 5.08mm EURO STYLE)
pins: 1, 2, 3, 4, 5

## T-Block E 5.08mm 6P
designator XTB?, comment TB009-508
Terminal de Bloque 6P 5.08mm High Current Euro Style TB009-508 CUI Devices
footprint T-BLOCK EURO 6P 5.08MM (Terminal de Bloque 6P 5.08mm EURO STYLE)
pins: 1, 2, 3, 4, 5, 6

## T-Block E 5.08mm 7P
designator XTB?, comment TB009-508
Terminal de Bloque 7P 5.08mm High Current Euro Style TB009-508 CUI Devices
footprint T-BLOCK EURO 7P 5.08MM (Terminal de Bloque 7P 5.08mm EURO STYLE)
pins: 1, 2, 3, 4, 5, 6, 7

## T-Block E 5.08mm 8P
designator XTB?, comment TB009-508
Terminal de Bloque 8P 5.08mm High Current Euro Style TB009-508 CUI Devices
footprint T-BLOCK EURO 8P 5.08MM (Terminal de Bloque 8P 5.08mm EURO STYLE)
pins: 1, 2, 3, 4, 5, 6, 7, 8

## T-Block E 5.08mm 9P
designator XTB?, comment TB009-508
Terminal de Bloque 9P 5.08mm High Current Euro Style TB009-508 CUI Devices
footprint T-BLOCK EURO 9P 5.08MM (Terminal de Bloque 9P 5.08mm EURO STYLE)
pins: 1, 2, 3, 4, 5, 6, 7, 8, 9

## T-Block E 5.08mm 10P
designator XTB?, comment TB009-508
Terminal de Bloque 10P 5.08mm High Current Euro Style TB009-508 CUI Devices
footprint T-BLOCK EURO 10P 5.08MM (Terminal de Bloque 10P 5.08mm EURO STYLE)
pins: 1, 2, 3, 4, 5, 6, 7, 8, 9, 10

## T-Block E 5.08mm 12P
designator XTB?, comment TB009-508
Terminal de Bloque 12P 5.08mm High Current Euro Style TB009-508 CUI Devices
footprint T-BLOCK EURO 12P 5.08MM (Terminal de Bloque 12P 5.08mm EURO STYLE)
pins: 1, 2, 3, 4, 5, 6, 7, 8, 9, 10, 11, 12

## T-Block E 5.08mm 14P
designator XTB?, comment TB009-508
Terminal de Bloque 14P 5.08mm High Current Euro Style TB009-508 CUI Devices
footprint T-BLOCK EURO 14P 5.08MM (Terminal de Bloque 14P 5.08mm EURO STYLE)
pins: 1, 2, 3, 4, 5, 6, 7, 8, 9, 10, 11, 12, 13, 14

## T-Block E 5.08mm 15P
designator XTB?, comment TB009-508
Terminal de Bloque 15P 5.08mm High Current Euro Style TB009-508 CUI Devices
footprint T-BLOCK EURO 15P 5.08MM (Terminal de Bloque 15P 5.08mm EURO STYLE)
pins: 1, 2, 3, 4, 5, 6, 7, 8, 9, 10, 11, 12, 13, 14, 15

## T-Block E 5.08mm 16P
designator XTB?, comment TB009-508
Terminal de Bloque 16P 5.08mm High Current Euro Style TB009-508 CUI Devices
footprint T-BLOCK EURO 16P 5.08MM (Terminal de Bloque 16P 5.08mm EURO STYLE)
pins: 1, 2, 3, 4, 5, 6, 7, 8, 9, 10, 11, 12, 13, 14, 15, 16

## T-Block Plug 3.81mm 2P 90
designator XTB?, comment T-Block
Terminal de Bloque 2P 3.81mm Desmontable 90 Grados
footprint T-BLOCK 2P 3.81MM Ang (TERMINAL BLOCK 3.81MM 2P)
pins: 1, 2

## T-Block Plug 3.81mm 3P 90
designator XTB?, comment T-Block
Terminal de Bloque 3P 3.81mm Desmontable 90 Grados
footprint T-BLOCK 3P 3.81MM Ang (TERMINAL BLOCK 3.81MM 3P)
pins: 1, 2, 3

## T-Block Plug 3.81mm 4P 90
designator XTB?, comment T-Block
Terminal de Bloque 4P 3.81mm Desmontable 90 Grados
footprint T-BLOCK 4P 3.81MM Ang (TERMINAL BLOCK 3.81MM 4P)
pins: 1, 2, 3, 4

## T-Block Plug 3.81mm 5P Right
designator XTB?, comment T-Block
Terminal de Bloque 5P 3.81mm Desmontable
footprint T-BLOCK 5P 3.81MM Ver (TERMINAL BLOCK 3.81MM 5P 691321300005)
pins: 1, 2, 3, 4, 5

## T-Block Plug 3.81mm 8P 90
designator XTB?, comment T-Block
Terminal de Bloque 8P 3.81mm Desmontable 90 Grados
footprint T-BLOCK 8PA 3.81MM Ang (TERMINAL BLOCK 3.81MM 8P)
pins: 1, 2, 3, 4, 5, 6, 7, 8

## T-Block Plug 3.81mm 8P Right
designator XTB?, comment T-Block
Terminal de Bloque 8P 3.81mm Desmontable
footprint T-BLOCK 8PA 3.81MM (TERMINAL BLOCK 3.81MM 8P)
pins: 1, 2, 3, 4, 5, 6, 7, 8

## T-Block Plug 3.81mm 12P Righ
designator XTB?, comment T-Block
Terminal de Bloque 12P 3.81mm Desmontable
footprint T-BLOCK 12P 3.81MM Ver (TERMINAL BLOCK 3.81MM 12P 691321300012)
pins: 1, 2, 3, 4, 5, 6, 7, 8, 9, 10, 11, 12

## T-Block Plug 5.08mm 2P
designator XTB?, comment T-Block
Terminal de Bloque Pluggeable 2P 5.08mm
footprint T-BLOCK 2P 5.08MM PLUG (Terminal de Bloque 2P 5.08mm 90)
pins: 1, 2

## T-Block Plug 5.08mm 3P
designator XTB?, comment T-Block
Terminal de Bloque 3P 5.08mm Pluggeable
footprint T-BLOCK 3P 5.08MM PLUG (Terminal de Bloque 3P 5.08mm 90)
pins: 1, 2, 3

## T-Block Plug 5.08mm 4P
designator XTB?, comment T-Block
Terminal de Bloque 4P 5.08mm Pluggeable
footprint T-BLOCK 4P 5.08MM PLUG (Terminal de Bloque 4P 5.08mm 90)
pins: 1, 2, 3, 4

## T-Block Plug 5.08mm 6P
designator XTB?, comment T-Block
Terminal de Bloque 6P 5.08mm Pluggeable
footprint T-BLOCK 6P 5.08MM PLUG (Terminal de Bloque 6P 5.08mm 90)
pins: 1, 2, 3, 4, 5, 6

## T-Block Plug 5.08mm 8P
designator XTB?, comment T-Block
Terminal de Bloque 8P 5.08mm Pluggeable
footprint T-BLOCK 8P 5.08MM PLUG (Terminal de Bloque 8P 5.08mm 90)
pins: 1, 2, 3, 4, 5, 6, 7, 8

## T-Block Plug 5.08mm 10P
designator XTB?, comment T-Block
Terminal de Bloque 10P 5.08mm Pluggeable
footprint T-BLOCK 10P 5.08MM PLUG (Terminal de Bloque 10P 5.08mm 90)
pins: 1, 2, 3, 4, 5, 6, 7, 8, 9, 10

## T-Block Plug 5.08mm 12P
designator XTB?, comment T-Block
Terminal de Bloque 12P 5.08mm Pluggeable
footprint T-BLOCK 12P 5.08MM PLUG (Terminal de Bloque 12P 5.08mm 90)
pins: 1, 2, 3, 4, 5, 6, 7, 8, 9, 10, 11, 12

## T-Block Plug 5.08mm 14P
designator XTB?, comment T-Block
Terminal de Bloque 14P 5.08mm Pluggeable
footprint T-BLOCK 14P 5.08MM PLUG (Terminal de Bloque 14P 5.08mm 90)
pins: 1, 2, 3, 4, 5, 6, 7, 8, 9, 10, 11, 12, 13, 14

## T-Block Plug 5.08mm 16P
designator XTB?, comment T-Block
Terminal de Bloque 16P 5.08mm Pluggeable
footprint T-BLOCK 16P 5.08MM PLUG (Terminal de Bloque 16P 5.08mm 90)
pins: 1, 2, 3, 4, 5, 6, 7, 8, 9, 10, 11, 12, 13, 14, 15, 16

## T-Block Plugg 5.08mm 24P
designator XTB?, comment TB 24P
Block Terminal Pluggeable 5.08mm 1759237
footprint TB 24P (Desmontable Terminal Block 24P 5.08mm)
pins: 1, 2, 3, 4, 5, 6, 7, 8, 9, 10, 11, 12, 13, 14, 15, 16, 17, 18, 19, 20, 21, 22, 23, 24

## T-Block PWR 2P-10.16mm WE
designator J?, comment 691219610002
WR-TBL Serie 2196 Horizontal Entry Modular, Rising Cage Clamp, THT, pitch 10.16mm, 2p; Manufacturer: Wurth Elektronik; Modularity: Yes; PCB/Cable/Panel: PCB; Pin Number: 2; Rated Current [UL]: 57A; Working Voltage [UL]: 300VAC; ComponentLink1Description: Manufacturer; ComponentLink1URL: http://www.we-online.de; ComponentLink2URL: https://katalog.we-online.de/em/datasheet/691219610002.pdf; ComponentLink2Description: Datasheet; Mounting Technology: THT; Manufacturer Part Number: 691219610002; Packaging: Box; Operating Temperature: -40 to +105degC; Pitch: 10.16mm; Published Date: Feburary 2021; Type: Horizontal; Application: Rising Cage Clamp
footprint 691219610002
footprint 691219610002 (Serie 2196 - 10.16 mm Horizontal Entry Modular WR-TBL, 2 pin)
pins: 1, 2

## TBP-1990106
designator J?
TERM BLOCK 12POS 45DEG 2.5MM PCB; MF: {'manufacturer': u'Phoenix Contact'}; Package: None; Price: None; Value: *; MP: 1990106; Availability: Unavailable
footprint PHOENIX_1990106
pins: 1, 2, 3, 4, 5, 6, 7, 8, 9, 10, 11, 12

## TBW-691416500002
designator J?, comment 691416500002
WR-TBL Series 4165 Vertical Entry, THT, pitch 5.08mm, 02p; Manufacturer: Wurth Elektronik; Modularity: No; Rated Current: 10A; System: Spring Clamp; Working Voltage: 300V; Manufacturer Part Number: 691416500002; Category: Terminal Block; Match Code: WR-TBL; ComponentLink1Description: Website Link; ComponentLink1URL: https://www.we-online.com/redexpert/article/691416500002?ad; ComponentLink2Description: Datasheet Link; ComponentLink2URL: https://www.we-online.com/redexpert/spec/691416500002?ad; Mount: Through Hole; Min Operating Temperature: -30°C; Max Operating Temperature: 120°C; Packaging: Box; Application: Screwless; Number of Pins: 2; Number of Rows: 1; Orientation: Vertical; Pitch: 5.08mm
footprint 691416500002
footprint 691416500002 (5.08 mm Screwless Vertical Entry, 2p)
pins: 1, 2

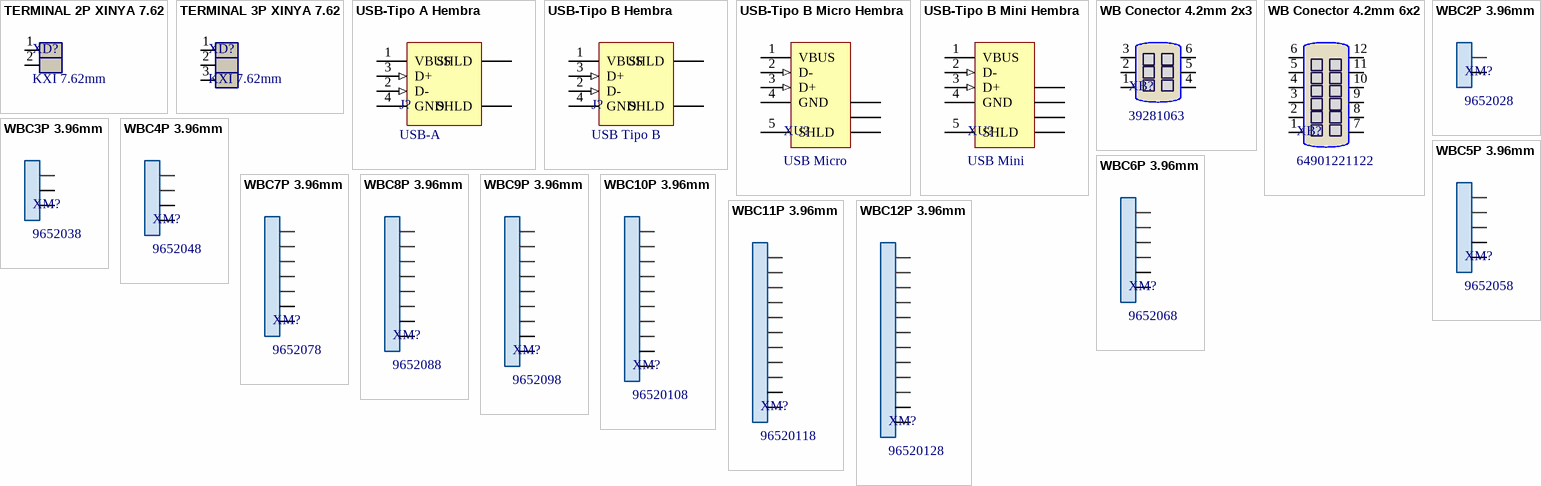
[diagram p4: symbols TERMINAL 2P XINYA 7.62 to WBC12P 3.96mm]

## TERMINAL 2P XINYA 7.62
designator XD?, comment KXI 7.62mm
FASTON PCB TERMINAL 2P
footprint XINYA 2P (Faston Connector 2P 7.62mm)
pins: 1, 2

## TERMINAL 3P XINYA 7.62
designator XD?, comment KXI 7.62mm
FASTON PCB TERMINAL 3P
footprint XINYA 3P (7.62MM TERMINAL FASTON)
pins: 1, 2, 3

## USB-Tipo A Hembra
designator J?, comment USB-A
USB Tipo A
footprint USB Tipo A
pins: 1 VBUS (power) "Power", 2 D- (in) "-DATA", 3 D+ (in) "+DATA", 4 GND (power) "Ground", 5 SHLD "Shield", 6 SHLD "Shield"

## USB-Tipo B Hembra
designator J?, comment USB Tipo B
footprint USB TIPO B
pins: 1 VBUS (power) "Power", 2 D- (in) "-DATA", 3 D+ (in) "+DATA", 4 GND (power) "Ground", 5 SHLD "Shield", 6 SHLD "Shield"

## USB-Tipo B Micro Hembra
designator XU?, comment USB Micro
footprint USB MICRO
pins: 1 VBUS (power) "Power", 2 D- (in) "-DATA", 3 D+ (in) "+DATA", 4 GND (power) "Ground", 5 SHLD "Shield", 6 SHLD "Shield", 7 SHLD "Shield", 8 SHLD "Shield"

## USB-Tipo B Mini Hembra
designator XU?, comment USB Mini
footprint USB MINI B
pins: 1 VBUS (power) "Power", 2 D- (in) "-DATA", 3 D+ (in) "+DATA", 4 GND (power) "Ground", 5 SHLD "Shield", 6 SHLD "Shield", 7 SHLD "Shield", 8 SHLD "Shield", 9 SHLD "Shield"

## WB Conector 4.2mm 2x3
designator XB?, comment 39281063
Wire to Board Connector 4.2mm Molex 39281063
footprint WBC 2X3 (Wire to Board Connector 2x3)
pins: 1, 2, 3, 4, 5, 6

## WB Conector 4.2mm 6x2
designator XB?, comment 64901221122
Wire to Board Connector 4.2mm Wurth 64901221122/ TE 1-2825272-2
footprint WBC 6X2 WR/TE (Wire to Board Connector 4.2mm 64901221122)
pins: 1, 2, 3, 4 3, 5, 6, 7, 8, 9, 10, 11, 12

## WBC2P 3.96mm
designator XM?, comment 9652028
Wire to Board conector Serie Molex 96520xx
footprint WBC 2P 3.96mm (Wire to Board Connector 3.96mm 2P)
pins: 1, 2

## WBC3P 3.96mm
designator XM?, comment 9652038
Wire to Board conector Serie Molex 96520xx
footprint WBC 3P 3.96mm (Wire to Board Connector 3.96mm 3P)
pins: 1, 2, 3

## WBC4P 3.96mm
designator XM?, comment 9652048
Wire to Board conector Serie Molex 96520xx
footprint WBC 4P 3.96mm (Wire to Board Connector 3.96mm 4P)
pins: 1, 2, 3, 4

## WBC5P 3.96mm
designator XM?, comment 9652058
Wire to Board conector Serie Molex 96520xx
footprint WBC 5P 3.96mm (Wire to Board Connector 3.96mm 5P)
pins: 1, 2, 3, 4, 5

## WBC6P 3.96mm
designator XM?, comment 9652068
Wire to Board conector Serie Molex 96520xx
footprint WBC 6P 3.96mm (Wire to Board Connector 3.96mm 6P)
pins: 1, 2, 3, 4, 5, 6

## WBC7P 3.96mm
designator XM?, comment 9652078
Wire to Board conector Serie Molex 96520xx
footprint WBC 7P 3.96mm (Wire to Board Connector 3.96mm 7P)
pins: 1, 2, 3, 4, 5, 6, 7

## WBC8P 3.96mm
designator XM?, comment 9652088
Wire to Board conector Serie Molex 96520xx
footprint WBC 8P 3.96mm (Wire to Board Connector 3.96mm 8P)
pins: 1, 2, 3, 4, 5, 6, 7, 8

## WBC9P 3.96mm
designator XM?, comment 9652098
Wire to Board conector Serie Molex 96520xx
footprint WBC 9P 3.96mm (Wire to Board Connector 3.96mm 9P)
pins: 1, 2, 3, 4, 5, 6, 7, 8, 9

## WBC10P 3.96mm
designator XM?, comment 96520108
Wire to Board conector Serie Molex 96520xx
footprint WBC 10P 3.96mm (Wire to Board Connector 3.96mm 10P)
pins: 1, 2, 3, 4, 5, 6, 7, 8, 9, 10

## WBC11P 3.96mm
designator XM?, comment 96520118
Wire to Board conector Serie Molex 96520xx
footprint WBC 11P 3.96mm (Wire to Board Connector 3.96mm 11P)
pins: 1, 2, 3, 4, 5, 6, 7, 8, 9, 10, 11

## WBC12P 3.96mm
designator XM?, comment 96520128
Wire to Board conector Serie Molex 96520xx
footprint WBC 12P 3.96mm (Wire to Board Connector 3.96mm 12P)
pins: 1, 2, 3, 4, 5, 6, 7, 8, 9, 10, 11, 12